# Altium integrated library TSW-112-22-G-S-RA.IntLib: 1 symbol
Pins are listed as number, name and electrical type; pins without a type are passive.

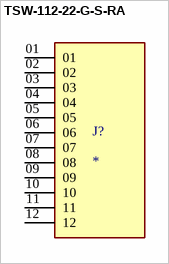
[diagram p0: symbol TSW-112-22-G-S-RA]

## TSW-112-22-G-S-RA
designator J?
Connector Header Through Hole, Right Angle 12 position 0.100 (2.54mm); MF: Samtec; MP: TSW-112-22-G-S-RA; SnapEDA_Link: https://www.snapeda.com/parts/TSW-112-22-G-S-RA/Samtec/view-part/?ref=snap; Package: None; Value: *; Check_prices: https://www.snapeda.com/parts/TSW-112-22-G-S-RA/Samtec/view-part/?ref=eda
footprint SAMTEC_TSW-112-22-G-S-RA
pins: 01, 02, 03, 04, 05, 06, 07, 08, 09, 10, 11, 12